# EAGLE library part 219-04* (library cyclops)
Surface Mount DIP Switch Series 219 SMT CTS Electronic Components Sourc: www.ctscorp.com
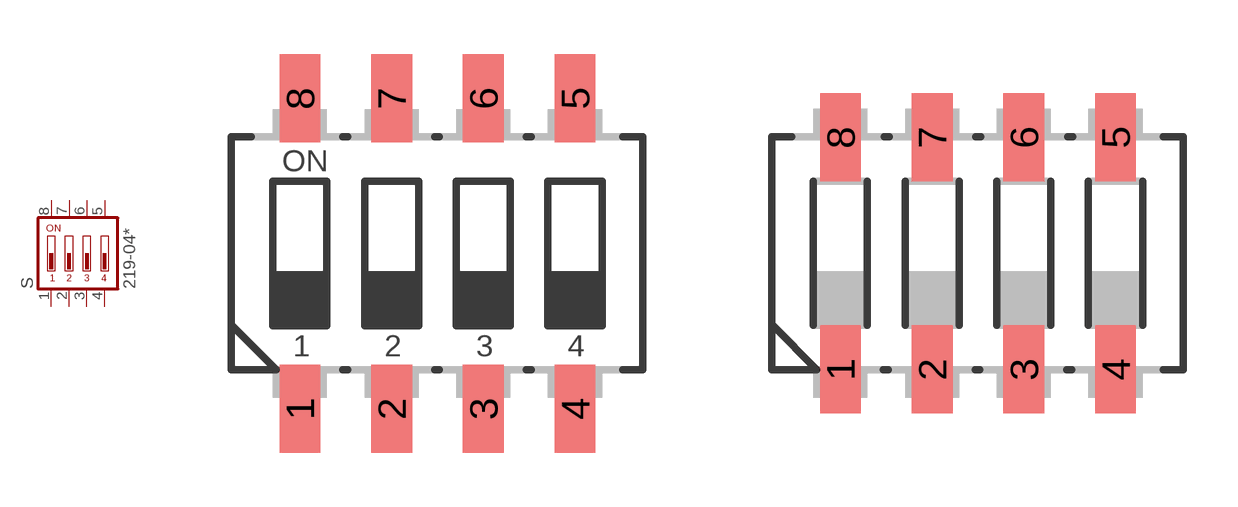
[diagram p5: symbol with the pads of CTS-219-04; footprints CTS-219-04, CTS-219-04J]

Designator prefix S

## 219-04 (OC_FARNELL: unknown; OC_NEWARK: unknown)  [CTS-219-04]
1  1  pas
2  2  pas
3  3  pas
4  4  pas
5  5  pas
6  6  pas
7  7  pas
8  8  pas

## 219-04J (OC_FARNELL: unknown; OC_NEWARK: unknown)  [CTS-219-04J]
Pads as for CTS-219-04

## Footprint CTS-219-04 (pad centres in mm)
Surface Mount DIP Switch Series 219 SMT CTS Electronic Components Sourc: www.ctscorp.com
smd 1.13 x 2.44: 1 -3.81,-4.3; 2 -1.27,-4.3; 3 1.27,-4.3; 4 3.81,-4.3; 5 3.81,4.3; 6 1.27,4.3; 7 -1.27,4.3; 8 -3.81,4.3

## Footprint CTS-219-04J (pad centres in mm)
Surface Mount DIP Switch Series 219 SMT "J" Bend CTS Electronic Components Sourc: www.ctscorp.com
smd 1.13 x 2.44: 1 -3.81,-3.215; 2 -1.27,-3.215; 3 1.27,-3.215; 4 3.81,-3.215; 5 3.81,3.215; 6 1.27,3.215; 7 -1.27,3.215; 8 -3.81,3.215